# Altium footprint library TP5100.PcbLib: 1 footprints
Each footprint in its own frame and in the unit in brackets; x right, y up, seen from the top. Pads: shape width x height; smd on the part's side, far side on the other; paste and mask are expansions set on the pad; w line width, h text height; cw(c..) or ccw(c..) is an arc to the next point about the centre after c.
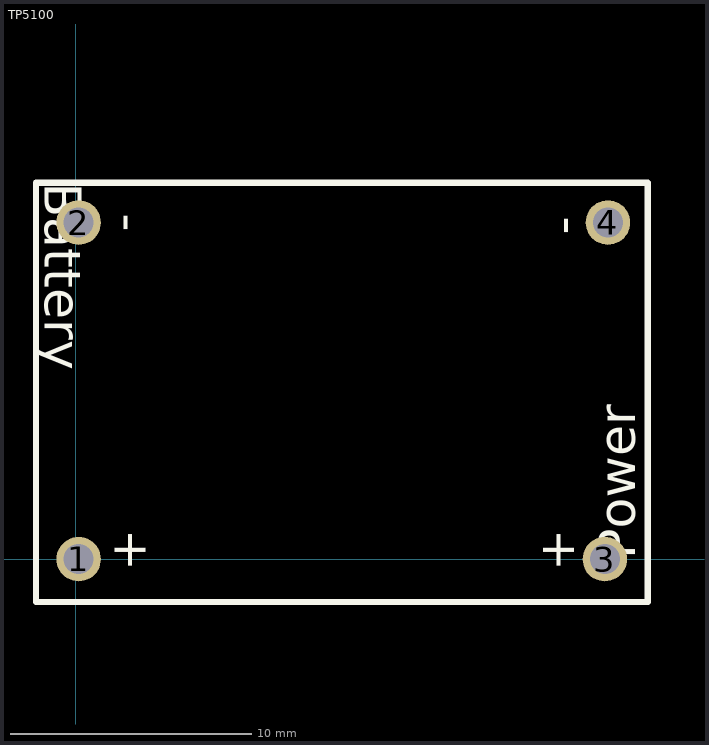
[diagram p0: the footprint, top view; thin cyan lines are the x and y axes]

## TP5100 [mm]
pads (4):
  round 1.85 hole 1.25: 1(0.127,0) 2(0.127,13.97) 3(21.971,0) 4(22.098,13.97)
Top Overlay:
  lines w0.254: -1.651,-1.778 23.749,-1.778 23.749,15.621 -1.651,15.621 -1.651,-1.778
  text "-" at 2.667,13.589 h1.52
  text "+" at 2.921,-0.508 h1.52
  text "-" at 20.955,13.462 h1.52
  text "+" at 20.701,-0.508 h1.52
  text "Battery" at -1.27,15.621 h1.52
  text "Power" at 23.241,0 h1.52
3D body "tp5100 v2 (step).step": height 7.95, standoff 3.41, extent -1.397,-1.642 23.603,15.358